# Altium footprint library Diodes.PcbLib: 16 footprints
Each footprint in its own frame and in the unit in brackets; x right, y up, seen from the top. Pads: shape width x height; smd on the part's side, far side on the other; paste and mask are expansions set on the pad; w line width, h text height; cw(c..) or ccw(c..) is an arc to the next point about the centre after c.
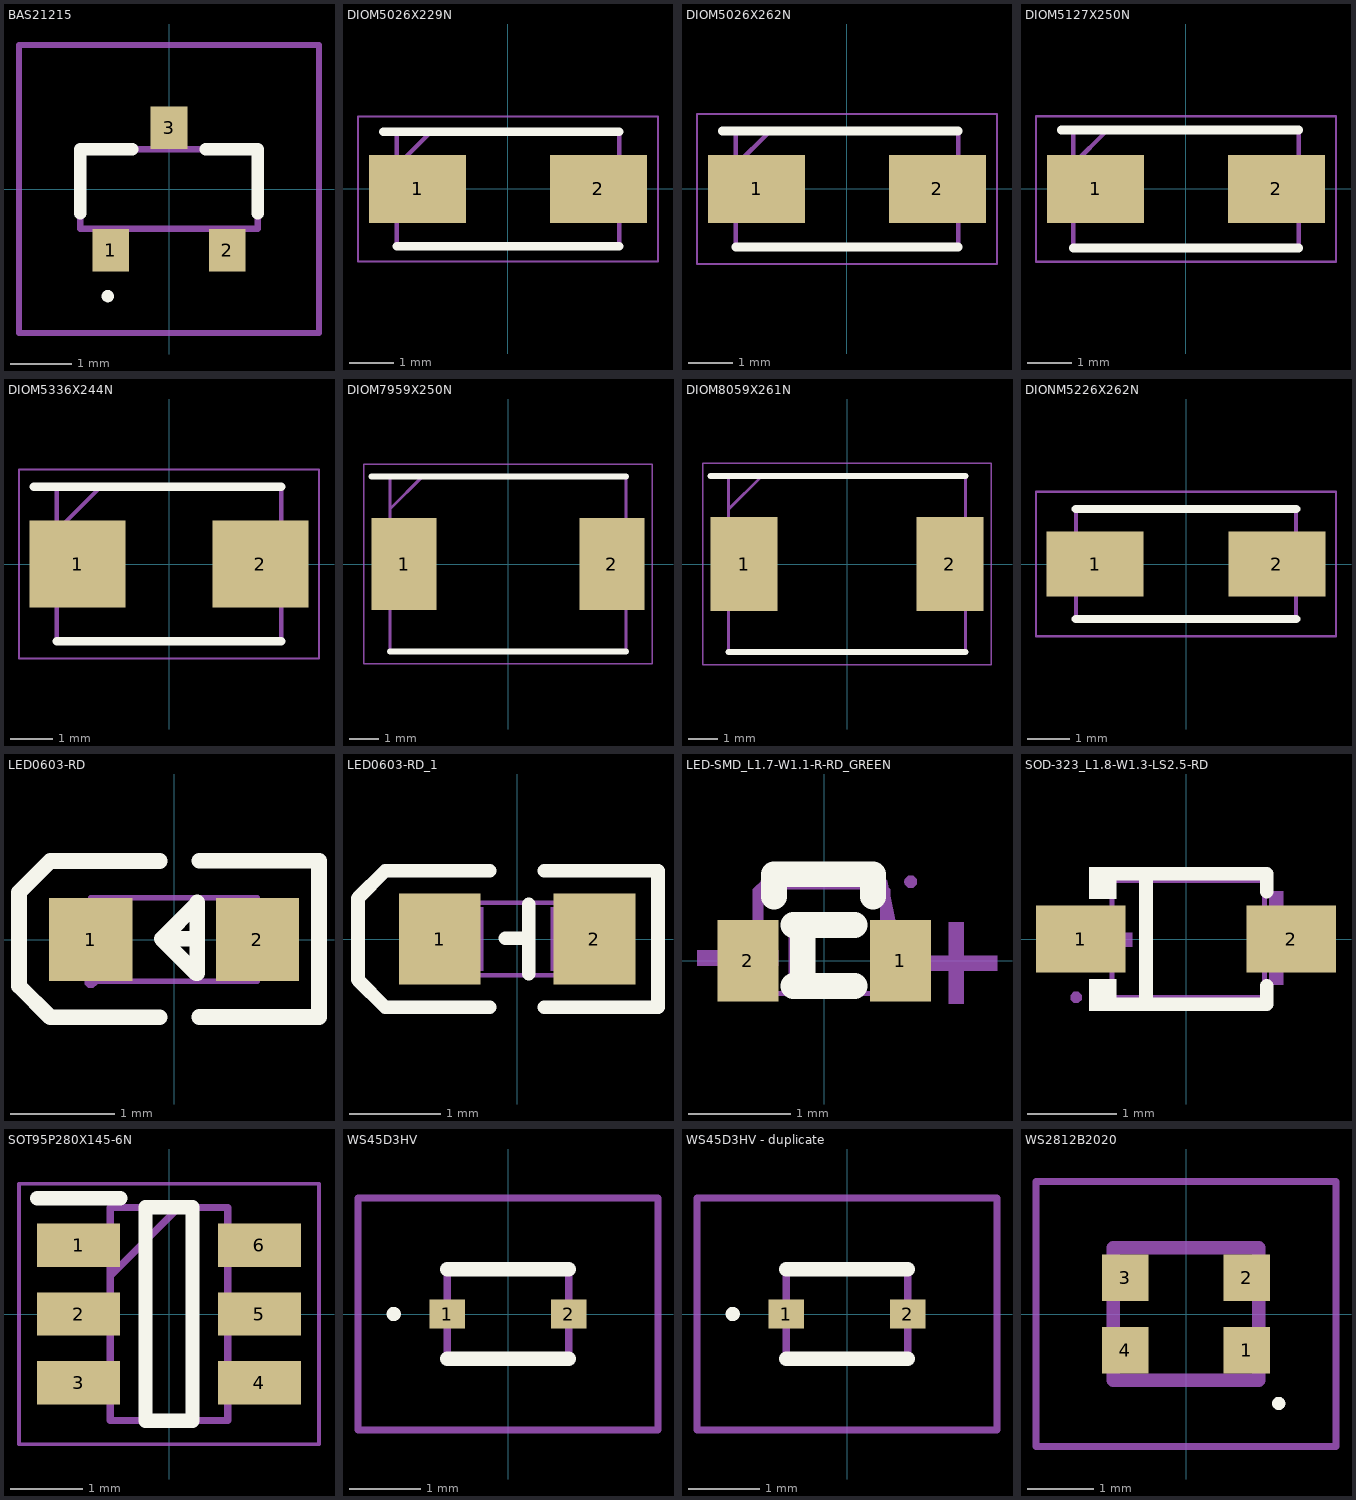
[diagram p0: the footprints below, top view; thin cyan lines are the x and y axes]

## BAS21215 [mm]
pads (3):
  rect 0.6x0.7 smd: 1(-0.95,-1) 2(0.95,-1) 3(0,1)
Top Overlay:
  lines w0.1: -1,-1.8 ccw(c-1,-1.75) -1,-1.7 ccw(c-1,-1.75) -1,-1.8
  lines w0.2: -1.45,-0.4 -1.45,0.65 -0.6,0.65 ; 0.6,0.65 1.45,0.65 1.45,-0.4
Mechanical 13:
  lines w0.1: -1.45,-0.65 1.45,-0.65 1.45,0.65 -1.45,0.65 -1.45,-0.65
Mechanical 15:
  lines w0.1: -2.45,-2.35 2.45,-2.35 2.45,2.35 -2.45,2.35 -2.45,-2.35
3D body "BAS21,215.stp": height 0.95, standoff 0, extent -1.452,-1.201 1.448,1.199

## DIOM5026X229N [mm]
pads (2):
  rect 2.2x1.55 smd: 1(-2.05,0) 2(2.05,0)
Top Overlay:
  lines w0.2: -2.825,1.298 2.52,1.298 ; -2.52,-1.298 2.52,-1.298
Mechanical 13:
  lines w0.1: -2.52,0.522 -1.745,1.298 ; -2.52,-1.298 2.52,-1.298 2.52,1.298 -2.52,1.298 -2.52,-1.298
Mechanical 15:
  lines w0.05: -3.4,-1.645 3.4,-1.645 3.4,1.645 -3.4,1.645 -3.4,-1.645
3D body "SMAJ58CA.stp": height 2.29, standoff 0, extent -2.52,-1.298 2.52,1.298

## DIOM5026X262N [mm]
pads (2):
  rect 2.2x1.55 smd: 1(-2.05,0) 2(2.05,0)
Top Overlay:
  lines w0.2: -2.825,1.312 2.52,1.312 ; -2.52,-1.312 2.52,-1.312
Mechanical 13:
  lines w0.1: -2.52,0.538 -1.745,1.312 ; -2.52,-1.312 2.52,-1.312 2.52,1.312 -2.52,1.312 -2.52,-1.312
Mechanical 15:
  lines w0.05: -3.4,-1.7 3.4,-1.7 3.4,1.7 -3.4,1.7 -3.4,-1.7
3D body "SS34A.stp": height 2.62, standoff 0, extent -2.52,-1.312 2.52,1.312

## DIOM5127X250N [mm]
pads (2):
  rect 2.2x1.55 smd: 1(-2.05,0) 2(2.05,0)
Top Overlay:
  lines w0.2: -2.825,1.335 2.555,1.335 ; -2.555,-1.335 2.555,-1.335
Mechanical 13:
  lines w0.1: -2.555,0.56 -1.78,1.335 ; -2.555,-1.335 2.555,-1.335 2.555,1.335 -2.555,1.335 -2.555,-1.335
Mechanical 15:
  lines w0.05: -3.4,-1.65 3.4,-1.65 3.4,1.65 -3.4,1.65 -3.4,-1.65
3D body "824500850.stp": height 2.5, standoff 0, extent -2.555,-1.335 2.555,1.335

## DIOM5336X244N [mm]
pads (2):
  rect 2.25x2.05 smd: 1(-2.15,0) 2(2.15,0)
Top Overlay:
  lines w0.2: -3.175,1.81 2.635,1.81 ; -2.635,-1.81 2.635,-1.81
Mechanical 13:
  lines w0.1: -2.635,0.785 -1.61,1.81 ; -2.635,-1.81 -2.635,1.81 2.635,1.81 2.635,-1.81 -2.635,-1.81
Mechanical 15:
  lines w0.05: -3.525,-2.22 -3.525,2.22 3.525,2.22 3.525,-2.22 -3.525,-2.22
3D body "SS54B.stp": height 2.44, standoff 0, extent -2.635,-1.81 2.635,1.81

## DIOM7959X250N [mm]
pads (2):
  rect 2.2x3.1 smd: 1(-3.5,0) 2(3.5,0)
Top Overlay:
  lines w0.2: -4.6,2.952 3.97,2.952 ; -3.97,-2.952 3.97,-2.952
Mechanical 13:
  lines w0.1: -3.97,1.852 -2.87,2.952 ; -3.97,-2.952 -3.97,2.952 3.97,2.952 3.97,-2.952 -3.97,-2.952
Mechanical 15:
  lines w0.05: -4.85,-3.36 -4.85,3.36 4.85,3.36 4.85,-3.36 -4.85,-3.36
3D body "B540C-13-F.stp": height 2.5, standoff 0, extent -3.97,-2.953 3.97,2.953

## DIOM8059X261N [mm]
pads (2):
  rect 2.25x3.15 smd: 1(-3.45,0) 2(3.45,0)
Top Overlay:
  lines w0.2: -4.575,2.95 3.975,2.95 ; -3.975,-2.95 3.975,-2.95
Mechanical 13:
  lines w0.1: -3.975,1.825 -2.85,2.95 ; -3.975,-2.95 -3.975,2.95 3.975,2.95 3.975,-2.95 -3.975,-2.95
Mechanical 15:
  lines w0.05: -4.825,-3.375 -4.825,3.375 4.825,3.375 4.825,-3.375 -4.825,-3.375
3D body "MBRS340T3G.stp": height 2.61, standoff 0, extent -3.975,-2.95 3.975,2.95

## DIONM5226X262N [mm]
pads (2):
  rect 2.3x1.55 smd: 1(-2.15,0) 2(2.15,0)
Top Overlay:
  lines w0.2: -2.605,-1.302 2.605,-1.302 ; -2.605,1.302 2.605,1.302
Mechanical 13:
  lines w0.1: -2.605,-1.302 -2.605,1.302 2.605,1.302 2.605,-1.302 -2.605,-1.302
Mechanical 15:
  lines w0.05: -3.55,-1.71 -3.55,1.71 3.55,1.71 3.55,-1.71 -3.55,-1.71
3D body "SMAJ28CA.stp": height 2.31, standoff 0, extent -2.605,-1.302 2.605,1.302

## LED0603-RD [mm]
pads (2):
  rect 0.8x0.8 smd: 1(-0.799,0) 2(0.799,0)
Top Overlay:
  lines w0.15: -0.14,-0.746 -1.19,-0.746 -1.49,-0.446 -1.49,-0.346 -1.49,0.354 -1.49,0.454 -1.19,0.754 -0.14,0.754 ; 0.22,0.007 -0.12,0.007 ; 0.24,-0.744 1.39,-0.744 ; 0.24,0.757 1.39,0.757 1.39,-0.723 ; -0.12,0.007 0.22,0.347 0.22,0.357 0.22,-0.324 0.21,-0.324 -0.12,0.007
Mechanical 6:
  region: 0.529,0.068 1.069,0.068 1.069,-0.062 0.529,-0.062
  region: 0.735,-0.267 0.735,0.273 0.865,0.273 0.865,-0.267
  region: -1.07,0.062 -0.53,0.062 -0.53,-0.068 -1.07,-0.068
Mechanical 15:
  region: 0.5,-0.396 0.5,0.404 0.8,0.404 0.8,-0.396
  region: -0.8,-0.403 -0.8,0.397 -0.5,0.397 -0.5,-0.403
  region: -0.739,-0.403 -0.739,-0.379 -0.775,-0.344 -0.824,-0.343 -0.859,-0.379 -0.859,-0.403 -0.859,-0.428 -0.824,-0.463 -0.775,-0.463 -0.74,-0.428 -0.739,-0.403
  lines w0.051: -0.8,-0.4 0.8,-0.4 0.8,0.4 -0.8,0.4 -0.8,-0.4

## LED0603-RD_1 [mm]
pads (2):
  rect 0.9x1 smd: 1(-0.85,0) 2(0.85,0)
Top Overlay:
  lines w0.15: -0.3,-0.75 -1.45,-0.75 -1.75,-0.45 -1.75,-0.35 -1.75,0.35 -1.75,0.45 -1.45,0.75 -0.3,0.75 ; -0.127,0.006 0.127,0.006 ; 0.127,-0.381 0.127,0.381 ; 0.3,-0.75 1.55,-0.75 ; 0.3,0.75 1.55,0.75 ; 1.55,-0.73 1.55,0.75
Mechanical 6:
  region: 1.1,-0.1 0.5,-0.1 0.5,0.05 1.1,0.05
  region: -0.6,-0.1 -1.2,-0.1 -1.2,0.05 -0.6,0.05
  region: 0.865,0.273 0.865,-0.327 0.715,-0.327 0.715,0.273
Mechanical 15:
  region: 0.8,0.35 0.8,-0.35 0.37,-0.35 0.37,0.35
  region: -0.37,0.35 -0.37,-0.35 -0.8,-0.35 -0.8,0.35
  region: 0.86,0.4 0.86,0.425 0.825,0.46 0.775,0.46 0.74,0.425 0.74,0.4 0.74,0.375 0.775,0.34 0.825,0.34 0.86,0.375 0.86,0.4
  lines w0.051: -0.8,-0.4 -0.8,0.4 0.8,0.4 0.8,-0.4 -0.8,-0.4

## LED-SMD_L1.7-W1.1-R-RD_GREEN [mm]
pads (2):
  rect 0.6x0.8 smd: 1(0.75,0) 2(-0.75,0)
Top Overlay:
  lines w0.254: -0.493,0.631 -0.493,0.85 0.48,0.85 0.48,0.63 ; -0.3,-0.25 0.3,-0.25 ; -0.3,0.35 0.3,0.35 ; -0.21,-0.25 -0.21,0.35
Mechanical 6:
  region: 0.9,0.05 1.7,0.05 1.7,-0.1 0.9,-0.1
  region: -0.7,0.35 -0.7,0.7 -0.6,0.8 0.55,0.8 0.65,0.7 0.65,0.35 0.55,0.35 0.55,0.65 0.5,0.7 -0.55,0.7 -0.6,0.65 -0.6,0.35
  region: -0.35,0.276 -0.1,0.276 -0.1,-0.324 -0.35,-0.324
  region: 1.225,-0.425 1.225,0.375 1.375,0.375 1.375,-0.425
  region: -1.25,0.1 -0.45,0.1 -0.45,-0.05 -1.25,-0.05
Mechanical 15:
  region: 0.91,0.775 0.909,0.799 0.874,0.833 0.826,0.833 0.791,0.799 0.79,0.775 0.791,0.751 0.826,0.718 0.874,0.718 0.909,0.751 0.91,0.775
  region: 0.5,0.276 0.85,0.276 0.85,-0.324 0.5,-0.324
  region: -0.85,0.276 -0.5,0.276 -0.5,-0.324 -0.85,-0.324
  lines w0.051: -0.85,-0.324 -0.85,0.276 -0.7,0.276 -0.6,0.775 0.6,0.775 0.7,0.276 0.85,0.276 0.85,-0.324 -0.85,-0.324

## SOD-323_L1.8-W1.3-LS2.5-RD [mm]
pads (2):
  rect 1x0.75 smd: 1(-1.173,0) 2(1.173,0)
Top Overlay:
  region: -0.775,-0.802 -0.775,-0.45 -1.08,-0.45 -1.08,-0.802
  region: -0.775,0.802 -0.775,0.45 -1.08,0.45 -1.08,0.802
  lines w0.152: -0.851,-0.726 0.901,-0.726 0.901,-0.52 ; -0.851,0.726 0.901,0.726 0.901,0.53 ; -0.447,-0.726 -0.447,0.726
Mechanical 6:
  region: 1.083,0.53 1.083,-0.51 0.927,-0.51 0.927,0.53
  region: 1.315,0.09 1.315,-0.066 0.691,-0.066 0.691,0.09
  region: -1.225,0.07 -1.225,-0.086 -0.601,-0.086 -0.601,0.07
Mechanical 15:
  region: -0.815,0.16 -0.815,-0.16 -0.935,-0.16 -0.935,0.16
  region: -0.925,0.16 -0.925,-0.16 -1.225,-0.16 -1.225,0.16
  region: 0.985,0.16 0.985,-0.16 0.865,-0.16 0.865,0.16
  region: 1.275,0.16 1.275,-0.16 0.975,-0.16 0.975,0.16
  region: -1.165,-0.65 -1.165,-0.625 -1.2,-0.59 -1.25,-0.59 -1.285,-0.625 -1.285,-0.65 -1.285,-0.675 -1.25,-0.71 -1.2,-0.71 -1.165,-0.675 -1.165,-0.65
  lines w0.051: -0.825,-0.65 -0.825,0.65 0.875,0.65 0.875,-0.65 -0.825,-0.65

## SOT95P280X145-6N [mm]
pads (6):
  rect 1.15x0.6 smd: 1(-1.25,0.95) 2(-1.25,0) 3(-1.25,-0.95) 4(1.25,-0.95) 5(1.25,0) 6(1.25,0.95)
Top Overlay:
  lines w0.2: -1.825,1.6 -0.675,1.6 ; -0.325,-1.475 0.325,-1.475 0.325,1.475 -0.325,1.475 -0.325,-1.475
Mechanical 13:
  lines w0.1: -0.812,0.525 0.138,1.475 ; -0.812,-1.475 0.812,-1.475 0.812,1.475 -0.812,1.475 -0.812,-1.475
Mechanical 15:
  lines w0.05: -2.075,-1.8 2.075,-1.8 2.075,1.8 -2.075,1.8 -2.075,-1.8
3D body "SRV05-4.TCT.stp": height 1.45, standoff 0, extent -1.4,-1.475 1.4,1.475

## WS45D3HV [mm]
pads (2):
  rect 0.5x0.4 smd: 1(-0.85,0) 2(0.85,0)
Top Overlay:
  lines w0.1: -1.65,0 ccw(c-1.6,0) -1.55,0 ccw(c-1.6,0) -1.65,0
  lines w0.2: -0.85,-0.625 0.85,-0.625 ; -0.85,0.625 0.85,0.625
Mechanical 13:
  lines w0.1: -0.85,-0.625 -0.85,0.625 0.85,0.625 0.85,-0.625 -0.85,-0.625
Mechanical 15:
  lines w0.1: -2.1,-1.625 -2.1,1.625 2.1,1.625 2.1,-1.625 -2.1,-1.625
3D body "WS4.5D3HV.stp": height 0.8, standoff 0, extent -1.06,-0.625 1.06,0.625

## WS45D3HV - duplicate [mm]
pads (2):
  rect 0.5x0.4 smd: 1(-0.85,0) 2(0.85,0)
Top Overlay:
  lines w0.1: -1.65,0 cw(c-1.6,0) -1.55,0 cw(c-1.6,0) -1.65,0
  lines w0.2: -0.85,-0.625 0.85,-0.625 ; -0.85,0.625 0.85,0.625
Mechanical 13:
  lines w0.1: -0.85,-0.625 0.85,-0.625 0.85,0.625 -0.85,0.625 -0.85,-0.625
Mechanical 15:
  lines w0.1: -2.1,-1.625 2.1,-1.625 2.1,1.625 -2.1,1.625 -2.1,-1.625
3D body "WS4.5D3HV.stp": height 0.8, standoff 0, extent -1.06,-0.625 1.06,0.625

## WS2812B2020 [mm]
pads (4):
  rect 0.7x0.7 smd: 1(0.915,-0.55) 2(0.915,0.55) 3(-0.915,0.55) 4(-0.915,-0.55)
Top Overlay:
  lines w0.1: 1.4,-1.4 ccw(c1.4,-1.35) 1.4,-1.3 ccw(c1.4,-1.35) 1.4,-1.4
Mechanical 13:
  lines w0.2: -1.1,-1 1.1,-1 1.1,1 -1.1,1 -1.1,-1
Mechanical 15:
  lines w0.1: -2.265,-2 2.265,-2 2.265,2 -2.265,2 -2.265,-2
3D body "WS2812B-2020.stp": height 0.84, standoff -0.01, extent -1.1,-1 1.1,1